# Altium footprint library PcbLibBruno.PcbLib: 9 footprints
Each footprint in its own frame and in the unit in brackets; x right, y up, seen from the top. Pads: shape width x height; smd on the part's side, far side on the other; paste and mask are expansions set on the pad; w line width, h text height; cw(c..) or ccw(c..) is an arc to the next point about the centre after c.
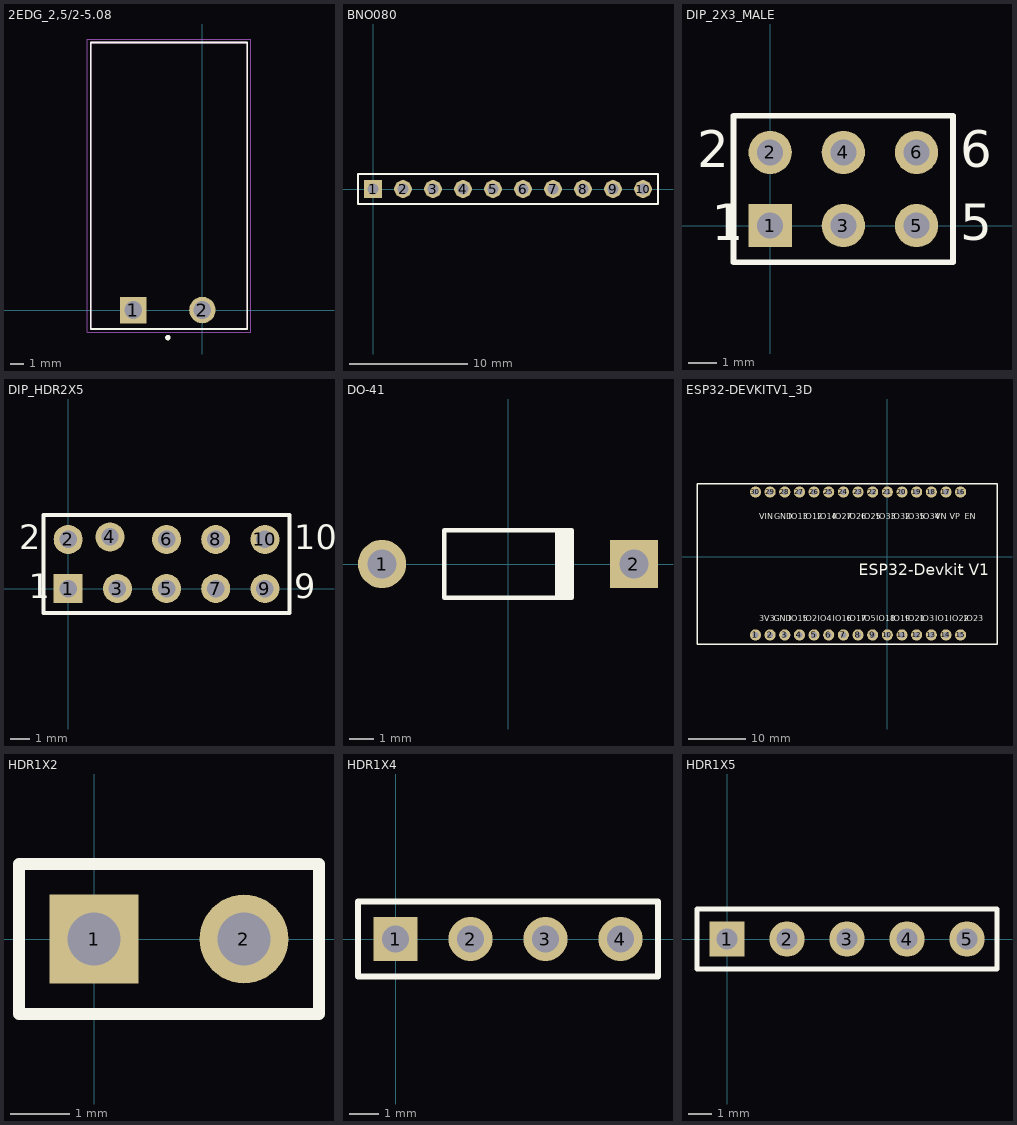
[diagram p0: the footprints below, top view; thin cyan lines are the x and y axes]

## 2EDG_2,5/2-5.08 [mm]
pads (2):
  rect 1.95x1.95 hole 1.3: 1(-5.08,0)
  round 1.95 hole 1.3: 2(0,0)
Top Overlay:
  circle w0.2: c-2.54,-2.032 r0.1
  lines w0.127: -8.22,-1.397 -7.62,-1.397 3.302,-1.397 3.302,19.685 -8.22,19.685 -8.22,-1.397
Mechanical 13:
  lines w0.127: -8.22,-1.397 -8.22,19.685 3.302,19.685 3.302,-1.397 -8.22,-1.397
Mechanical 15:
  lines w0.05: -8.47,-1.651 -8.47,19.939 3.556,19.939 3.556,-1.651 -8.47,-1.651
3D body "User Library-2EDGR-5_08-02P.STEP": height 8.42, standoff -3.78, extent -7.62,-1.605 2.54,10.495

## BNO080 [mm] "Header 1x10"
pads (10):
  rect 1.5x1.5 hole 0.9: 1(0,0)
  round 1.5 hole 0.9: 2(2.54,0) 3(5.08,0) 4(7.62,0) 5(10.16,0) 6(12.7,0) 7(15.24,0) 8(17.78,0) 9(20.32,0) 10(22.86,0)
Top Overlay:
  lines w0.2: -1.27,-1.27 24.13,-1.27 24.13,1.27 0.635,1.27 -1.27,1.27 -1.27,-1.27
3D body "MPU-9255.STEP": height 3.67, standoff 0.47, extent -1.57,-13.973 24.43,1.527

## DIP_2X3_MALE [mm] "Connector; Header; 3x2 Position"
pads (6):
  rect 1.5x1.5 hole 0.9: 1(0,0)
  round 1.5 hole 0.9: 2(0,2.54) 3(2.54,0) 4(2.54,2.54) 5(5.08,0) 6(5.08,2.54)
Top Overlay:
  lines w0.2: 1.482,-1.27 6.35,-1.27 ; 6.35,-1.27 6.35,3.81 -1.27,3.81 -1.27,-1.27 6.35,-1.27
  text "6" at 6.604,2.032 h1.27
  text "5" at 6.604,-0.508 h1.27
  text "2" at -2.54,2.032 h1.27
  text "1" at -2.032,-0.508 h1.27
3D body "User Library-IDC Socket Male 6pin Straight THT Goldplated 2_54mm.STEP": height 9.68, standoff -2.72, extent -5.07,-2.98 10.15,5.87

## DIP_HDR2X5 [mm] "Connector; Header; 5x2 Position"
pads (10):
  rect 1.5x1.5 hole 0.9: 1(0,0)
  round 1.5 hole 0.9: 2(0,2.54) 3(2.54,0) 4(2.159,2.667) 5(5.08,0) 6(5.08,2.54) 7(7.62,0) 8(7.62,2.54) 9(10.16,0) 10(10.16,2.54)
Top Overlay:
  lines w0.2: -1.27,-1.27 11.43,-1.27 11.43,3.81 -1.27,3.81 -1.27,-1.27
  text "10" at 11.684,2.032 h1.27
  text "9" at 11.684,-0.508 h1.27
  text "1" at -2.032,-0.508 h1.27
  text "2" at -2.54,2.032 h1.27
3D body "c-1761681-3-a-3d.stp": height 9.4, standoff -2.72, extent -5.08,-3.213 15.24,6.007
3D body: height 0.25, standoff 0, extent 2.794,4.191 2.794,4.191
3D body: height 0.25, standoff 0, extent 0.762,4.064 0.762,4.064
3D body: height 0.25, standoff 0, extent 1.397,5.207 1.397,5.207

## DO-41 [mm] "Diode, Axial; Body 5.2 x 2.7 mm (LxDia. max), Lead Dia. 0.86 mm (max)"
height 2.8
pads (2):
  round 2 hole 1.2: 1(-5.23,0)
  rect 2x2 hole 1.2: 2(5.23,0)
Top Overlay:
  rectangle: 1.95,-1.4 2.75,1.4
  lines w0.2: 2.65,-1.4 -2.65,-1.4 -2.65,1.4 2.65,1.4
3D body "User Library-DO-41-1.STEP": height 2.73, standoff -2.6, extent -5.512,-1.337 5.512,1.403

## ESP32-DEVKITV1_3D [mm]
pads (30):
  round 1.93 hole 1: 1(-22.87,-13.54) 2(-20.33,-13.54) 3(-17.79,-13.54) 4(-15.25,-13.54) 5(-12.71,-13.54) 6(-10.17,-13.54) 7(-7.63,-13.54) 8(-5.09,-13.54) 9(-2.55,-13.54) 10(-0.01,-13.54) 11(2.53,-13.54) 12(5.07,-13.54) 13(7.61,-13.54) 14(10.15,-13.54) 15(12.69,-13.54) 16(12.69,11.23) 17(10.15,11.23) 18(7.61,11.23) 19(5.07,11.23) 20(2.53,11.23) 21(-0.01,11.23) 22(-2.55,11.23) 23(-5.09,11.23) 24(-7.63,11.23) 25(-10.17,11.23) 26(-12.71,11.23) 27(-15.25,11.23) 28(-17.79,11.23) 29(-20.33,11.23) 30(-22.87,11.23)
Top Overlay:
  lines w0.254: -33,-15.2 19,-15.2 19,12.7 -33,12.7 -33,-15.2
  text "3V3" at -22.21,-11.2 h1.02
  text "GND" at -19.67,-11.2 h1.02
  text "IO15" at -17.13,-11.2 h1.02
  text "IO2" at -14.59,-11.2 h1.02
  text "IO4" at -12.05,-11.2 h1.02
  text "IO16" at -9.51,-11.2 h1.02
  text "IO17" at -6.97,-11.2 h1.02
  text "IO5" at -4.43,-11.2 h1.02
  text "IO18" at -1.89,-11.2 h1.02
  text "IO19" at 0.65,-11.2 h1.02
  text "IO21" at 3.19,-11.2 h1.02
  text "IO3" at 5.73,-11.2 h1.02
  text "IO1" at 8.27,-11.2 h1.02
  text "IO22" at 10.81,-11.2 h1.02
  text "IO23" at 13.35,-11.2 h1.02
  text "VIN" at -22.19,6.52 h1.02
  text "GND" at -19.65,6.52 h1.02
  text "IO13" at -17.11,6.52 h1.02
  text "IO12" at -14.57,6.52 h1.02
  text "IO14" at -12.03,6.52 h1.02
  text "IO27" at -9.49,6.52 h1.02
  text "IO26" at -6.95,6.52 h1.02
  text "IO25" at -4.41,6.52 h1.02
  text "IO33" at -1.87,6.52 h1.02
  text "IO32" at 0.67,6.52 h1.02
  text "IO35" at 3.21,6.52 h1.02
  text "IO34" at 5.75,6.52 h1.02
  text "VN" at 8.29,6.52 h1.02
  text "VP" at 10.83,6.52 h1.02
  text "EN" at 13.37,6.52 h1.02
  text "ESP32-Devkit V1" at -4.93,-3.18 h1.93
Mechanical 13:
  text "ESP32-DEVKITV1" at 5,-17.24 h1.27
3D body "ESP-32_v1.STEP": height 12.75, standoff 0.35, extent -33,-15.139 17.93,13.361

## HDR1X2 [mm] "Connector; Header; 2 Position"
pads (2):
  rect 1.5x1.5 hole 0.9: 1(0,0)
  round 1.5 hole 0.9: 2(2.54,0)
Top Overlay:
  lines w0.2: -1.27,-1.27 3.81,-1.27 3.81,1.27 -1.27,1.27 -1.27,-1.27
3D body "Pin Header 1x2 TH Pitch 2.54mm.stp": height 9.5, standoff -3.2, extent -1.27,-1.27 3.81,1.27

## HDR1X4 [mm]
pads (4):
  rect 1.5x1.5 hole 0.9: 1(0,0)
  round 1.5 hole 0.9: 2(2.54,0) 3(5.08,0) 4(7.62,0)
Top Overlay:
  lines w0.2: -1.27,-1.27 -1.27,1.27 8.89,1.27 8.89,-1.27 -1.27,-1.27
3D body "Pin Header 1x4 TH Pitch 2.54mm.stp": height 9.5, standoff -3.2, extent -1.27,-1.27 8.89,1.27

## HDR1X5 [mm]
pads (5):
  rect 1.5x1.5 hole 0.9: 1(0,0)
  round 1.5 hole 0.9: 2(2.54,0) 3(5.08,0) 4(7.62,0) 5(10.16,0)
Top Overlay:
  lines w0.2: -1.27,-1.27 -1.27,1.27 11.43,1.27 11.43,-1.27 -1.27,-1.27
3D body "Pin Header 1x5 TH Pitch 2.54mm.stp": height 2.49, standoff -10.21, extent -1.27,-1.27 11.43,1.27